# EAGLE library part MAX11608 (library JOSHUA)
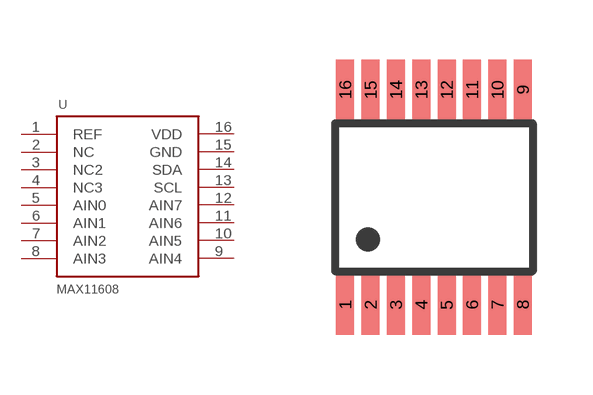
[diagram p4: symbol with the pads of QSOP16; footprint QSOP16]

Designator prefix -

## MAX11608  [QSOP16]
1  REF
2  NC
3  NC2
4  NC3
5  AIN0
6  AIN1
7  AIN2
8  AIN3
9  AIN4
10  AIN5
11  AIN6
12  AIN7
13  SCL
14  SDA
15  GND
16  VDD

## Footprint QSOP16 (pad centres in mm)
Small Outline Package
smd 0.45 x 1.5: 1 -2.223,-2.69; 2 -1.587,-2.69; 3 -0.953,-2.69; 4 -0.318,-2.69; 5 0.318,-2.69; 6 0.953,-2.69; 7 1.587,-2.69; 8 2.223,-2.69; 9 2.223,2.69; 10 1.587,2.69; 11 0.953,2.69; 12 0.318,2.69; 13 -0.318,2.69; 14 -0.953,2.69; 15 -1.587,2.69; 16 -2.223,2.69